# Altium schematic symbol library PT1003.SchLib: 19 symbols
Pins are listed as number, name and electrical type; pins without a type are passive.

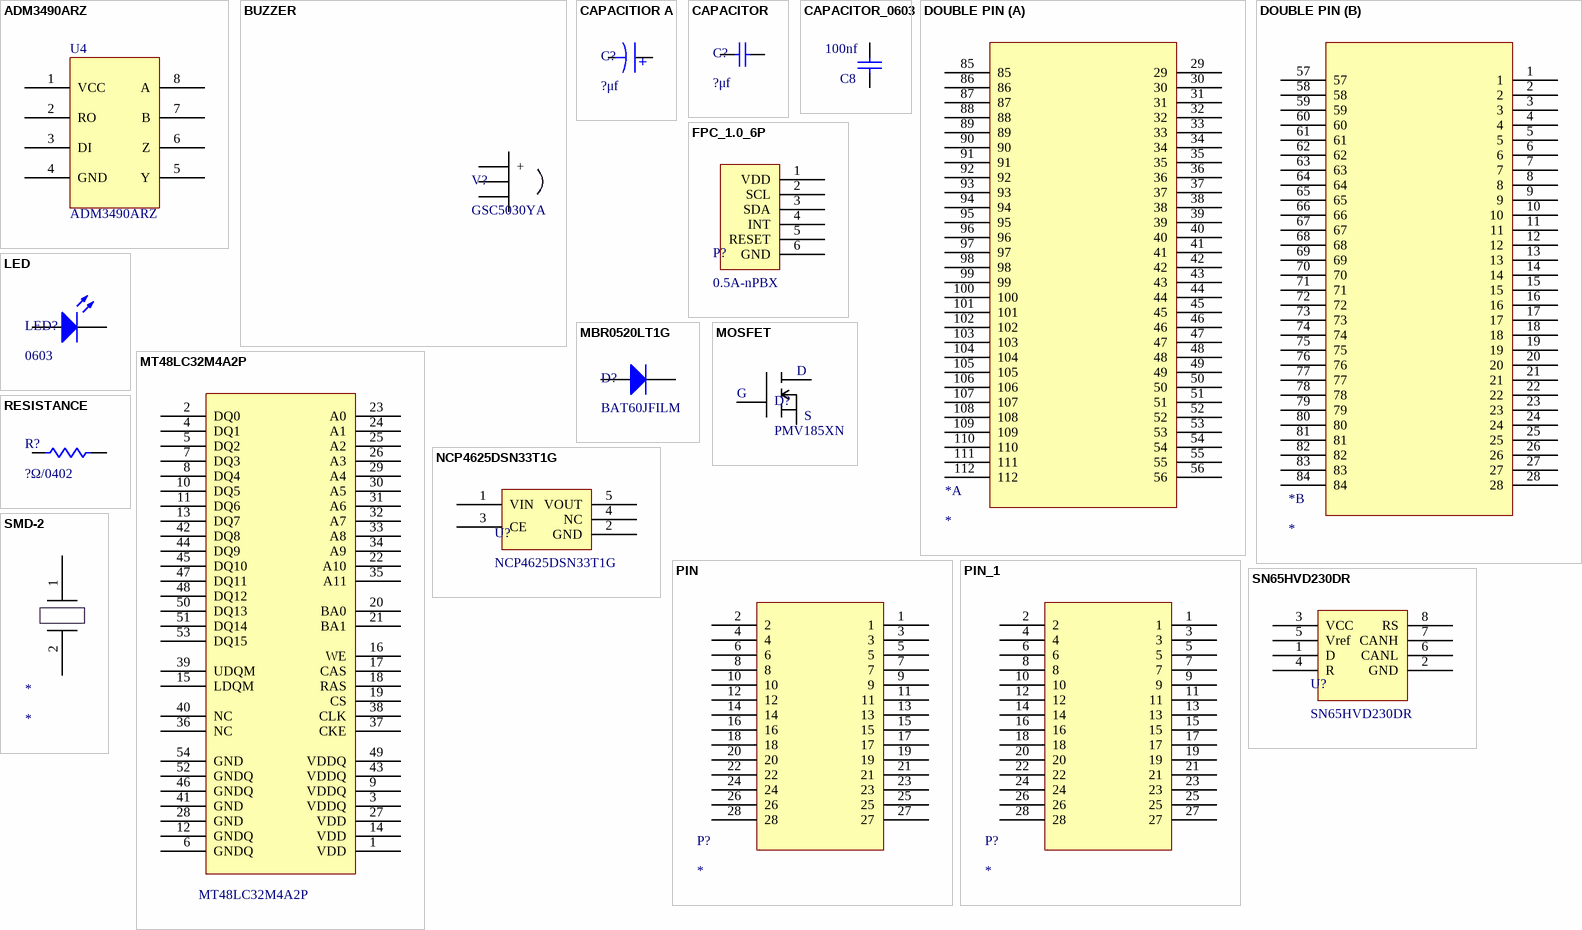
[diagram p0: symbols ADM3490ARZ to SN65HVD230DR]

## ADM3490ARZ
designator U4
RS422; Manufacturer: ANALOG DEVICES; Value: 3.3V RS-485/RS-422; Model: ADM3490ARZ
footprint ADM3490 (SOIC, 8-Leads, Body 5.0x4.0mm (max), Pitch 1.27mm, IPC Medium Density)
pins: 1 VCC, 2 RO, 3 DI, 4 GND, 5 Y, 6 Z, 7 B, 8 A

## BUZZER
designator V?, comment GSC5030YA
Manufacturer: INGHAI; Value: 5030 3V  4000HZ; Model: GSC5030YA
footprint GSC5030YA-12R4000
pins: 1 +, 2, 3 NC

## CAPACITIOR A
designator C?, comment ?μf
Value: ?μf
footprint CAPACITOR_0402 (Chip Capacitor, 2-Leads, Body 1.00x0.50mm, IPC Medium Density)
pins: 1, 2
text: +

## CAPACITOR
designator C?, comment ?μf
Value: ?μf
footprint CAPACITOR_0402 (Chip Capacitor, 2-Leads, Body 1.00x0.50mm, IPC Medium Density)
pins: 1, 2

## CAPACITOR_0603
designator C8, comment 100nf
Manufacturer: TDK; Model: C1608X7R1H104K080AA; Value: 100nf
footprint CAPACITOR_0603 (Chip Resistor, 2-Leads, Body 1.60x0.80mm, IPC Medium Density)
pins: 1, 2

## DOUBLE PIN
designator *
footprint PIN
part A pins: 29, 30, 31, 32, 33, 34, 35, 36, 37, 38, 39, 40, 41, 42, 43, 44, 45, 46, 47, 48, 49, 50, 51, 52, 53, 54, 55, 56, 85, 86, 87, 88, 89, 90, 91, 92, 93, 94, 95, 96, 97, 98, 99, 100, 101, 102, 103, 104, 105, 106, 107, 108, 109, 110, 111, 112
part B pins: 1, 2, 3, 4, 5, 6, 7, 8, 9, 10, 11, 12, 13, 14, 15, 16, 17, 18, 19, 20, 21, 22, 23, 24, 25, 26, 27, 28, 57, 58, 59, 60, 61, 62, 63, 64, 65, 66, 67, 68, 69, 70, 71, 72, 73, 74, 75, 76, 77, 78, 79, 80, 81, 82, 83, 84

## FPC_1.0_6P
designator P?, comment 0.5A-nPBX
Manufacturer: 深圳市芯鸿诺电子商行; Value: 6P 1mm; Model: 0.5A-nPBX
footprint 6P
pins: 1 VDD, 2 SCL, 3 SDA, 4 INT, 5 RESET, 6 GND

## LED
designator LED?, comment 0603
LED_G; Manufacturer: OSRAM; Value: 0603
footprint LED
pins: 1 A, 2 K

## MBR0520LT1G
designator D?, comment BAT60JFILM
Manufacturer: ST; Value: 10 V 3A; Model: BAT60JFILM
footprint MBR0520T1 SOD-123
pins: 1 A, 2 K

## MOSFET
designator D?, comment PMV185XN
Manufacturer: NXP; Value: 30V 1.2A; Model: PMV185XN
footprint PMV185XN (SOT23, 3-Leads, Body 2.90x2.37mm, Pitch 0.95mm, IPC Medium Density)
pins: 1 G, 2 S, 3 D

## MT48LC32M4A2P
designator U?
SDRAM; Manufacturer: MICRON; Value: 2Meg Bits * 16Bits * 4Banks,TSOP; Model: MT48LC32M4A2P
footprint IS42S16400J (TSOP, 54-Leads, Body 22.22x10.16mm, Pitch 0.80mm, IPC Medium Density)
pins: 1 VDD, 2 DQ0, 3 VDDQ, 4 DQ1, 5 DQ2, 6 GNDQ, 7 DQ3, 8 DQ4, 9 VDDQ, 10 DQ5, 11 DQ6, 12 GNDQ, 13 DQ7, 14 VDD, 15 LDQM, 16 WE, 17 CAS, 18 RAS, 19 CS, 20 BA0, 21 BA1, 22 A10, 23 A0, 24 A1, 25 A2, 26 A3, 27 VDD, 28 GND, 29 A4, 30 A5, 31 A6, 32 A7, 33 A8, 34 A9, 35 A11, 36 NC, 37 CKE, 38 CLK, 39 UDQM, 40 NC, 41 GND, 42 DQ8, 43 VDDQ, 44 DQ9, 45 DQ10, 46 GNDQ, 47 DQ11, 48 DQ12, 49 VDDQ, 50 DQ13, 51 DQ14, 52 GNDQ, 53 DQ15, 54 GND

## NCP4625DSN33T1G
designator U?
Manufacturer: ON; Value: 3.3V/SOT-23-5; Model: NCP4625DSN33T1G
footprint NCP4625DSN33T1G (SOT23, 5-Leads, Body 2.90x2.80mm, Pitch 0.95mm, IPC Medium Density)
pins: 1 VIN, 2 GND, 3 CE, 4 NC, 5 VOUT

## PIN
designator P?
Model: 2*14P; Value: 2*14P/2mm/Double pin
footprint PIN
pins: 1, 2, 3, 4, 5, 6, 7, 8, 9, 10, 11, 12, 13, 14, 15, 16, 17, 18, 19, 20, 21, 22, 23, 24, 25, 26, 27, 28

## PIN_1
designator P?
Model: 2*14P; Value: 2*14P/2mm/Double pin
footprint PIN_1
pins: 1, 2, 3, 4, 5, 6, 7, 8, 9, 10, 11, 12, 13, 14, 15, 16, 17, 18, 19, 20, 21, 22, 23, 24, 25, 26, 27, 28

## RESISTANCE
designator R?, comment ?Ω/0402
Value: ?Ω/0402
footprint RESSISTANCE_0402 (Chip Resistor, 2-Leads, Body 1.00x0.50mm, IPC Medium Density)
pins: 1, 2

## SMD-2
designator *
Manufacturer: MICRO CRYSTAL SWITZERLAND; Model: SMD-2; Value: 32.768KHZ 2P 2012
footprint SMD-2
pins: 1, 2

## SN65HVD230DR
designator U?
CAN; Manufacturer: TEXAS INSTRUMENTS; Value: 3.3V CAN; Model: SN65HVD230DR
footprint SN65HVD230 (SOIC, 8-Leads, Body 5.0x4.0mm (max), Pitch 1.27mm, IPC Medium Density)
pins: 1 D, 2 GND, 3 VCC, 4 R, 5 Vref, 6 CANL, 7 CANH, 8 RS

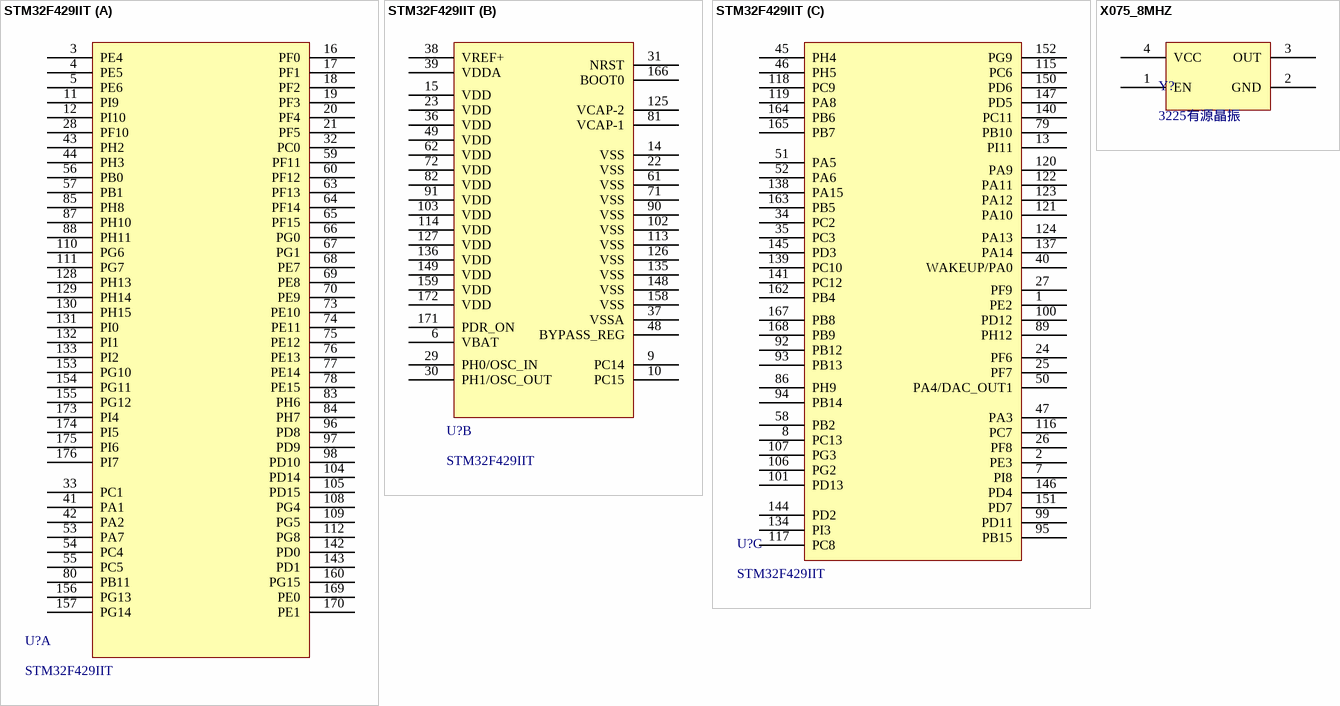
[diagram p1: symbols STM32F429IIT to X075_8MHZ]

## STM32F429IIT
designator U?
Manufacturer: ST; Value: 176-LQFP; Model: STM32F429IIT
footprint STM32F429IIT (TSQFP, 176-Leads, Body 24.00x24.00mm, Pitch 0.50mm, IPC Medium Density)
part A pins: 3 PE4, 4 PE5, 5 PE6, 11 PI9, 12 PI10, 16 PF0, 17 PF1, 18 PF2, 19 PF3, 20 PF4, 21 PF5, 28 PF10, 32 PC0, 33 PC1, 41 PA1, 42 PA2, 43 PH2, 44 PH3, 53 PA7, 54 PC4, 55 PC5, 56 PB0, 57 PB1, 59 PF11, 60 PF12, 63 PF13, 64 PF14, 65 PF15, 66 PG0, 67 PG1, 68 PE7, 69 PE8, 70 PE9, 73 PE10, 74 PE11, 75 PE12, 76 PE13, 77 PE14, 78 PE15, 80 PB11, 83 PH6, 84 PH7, 85 PH8, 87 PH10, 88 PH11, 96 PD8, 97 PD9, 98 PD10, 104 PD14, 105 PD15, 108 PG4, 109 PG5, 110 PG6, 111 PG7, 112 PG8, 128 PH13, 129 PH14, 130 PH15, 131 PI0, 132 PI1, 133 PI2, 142 PD0, 143 PD1, 153 PG10, 154 PG11, 155 PG12, 156 PG13, 157 PG14, 160 PG15, 169 PE0, 170 PE1, 173 PI4, 174 PI5, 175 PI6, 176 PI7
part B pins: 6 VBAT, 9 PC14, 10 PC15, 14 VSS, 15 VDD, 22 VSS, 23 VDD, 29 PH0/OSC_IN, 30 PH1/OSC_OUT, 31 NRST, 36 VDD, 37 VSSA, 38 VREF+, 39 VDDA, 48 BYPASS_REG, 49 VDD, 61 VSS, 62 VDD, 71 VSS, 72 VDD, 81 VCAP-1, 82 VDD, 90 VSS, 91 VDD, 102 VSS, 103 VDD, 113 VSS, 114 VDD, 125 VCAP-2, 126 VSS, 127 VDD, 135 VSS, 136 VDD, 148 VSS, 149 VDD, 158 VSS, 159 VDD, 166 BOOT0, 171 PDR_ON, 172 VDD
part C pins: 1 PE2, 2 PE3, 7 PI8, 8 PC13, 13 PI11, 24 PF6, 25 PF7, 26 PF8, 27 PF9, 34 PC2, 35 PC3, 40 WAKEUP/PA0, 45 PH4, 46 PH5, 47 PA3, 50 PA4/DAC_OUT1, 51 PA5, 52 PA6, 58 PB2, 79 PB10, 86 PH9, 89 PH12, 92 PB12, 93 PB13, 94 PB14, 95 PB15, 99 PD11, 100 PD12, 101 PD13, 106 PG2, 107 PG3, 115 PC6, 116 PC7, 117 PC8, 118 PC9, 119 PA8, 120 PA9, 121 PA10, 122 PA11, 123 PA12, 124 PA13, 134 PI3, 137 PA14, 138 PA15, 139 PC10, 140 PC11, 141 PC12, 144 PD2, 145 PD3, 146 PD4, 147 PD5, 150 PD6, 151 PD7, 152 PG9, 162 PB4, 163 PB5, 164 PB6, 165 PB7, 167 PB8, 168 PB9

## X075_8MHZ
designator Y?, comment 3225有源晶振
4-Pin; Manufacturer: 恒嘉丰; Value: 8MHZ 3225; Model: 3225有源晶振
footprint X032 (7x5)
pins: 1 EN, 2 GND, 3 OUT, 4 VCC